# Altium integrated library TI Power Management Power Supply Support.IntLib: 88 symbols (part 3 of 4)
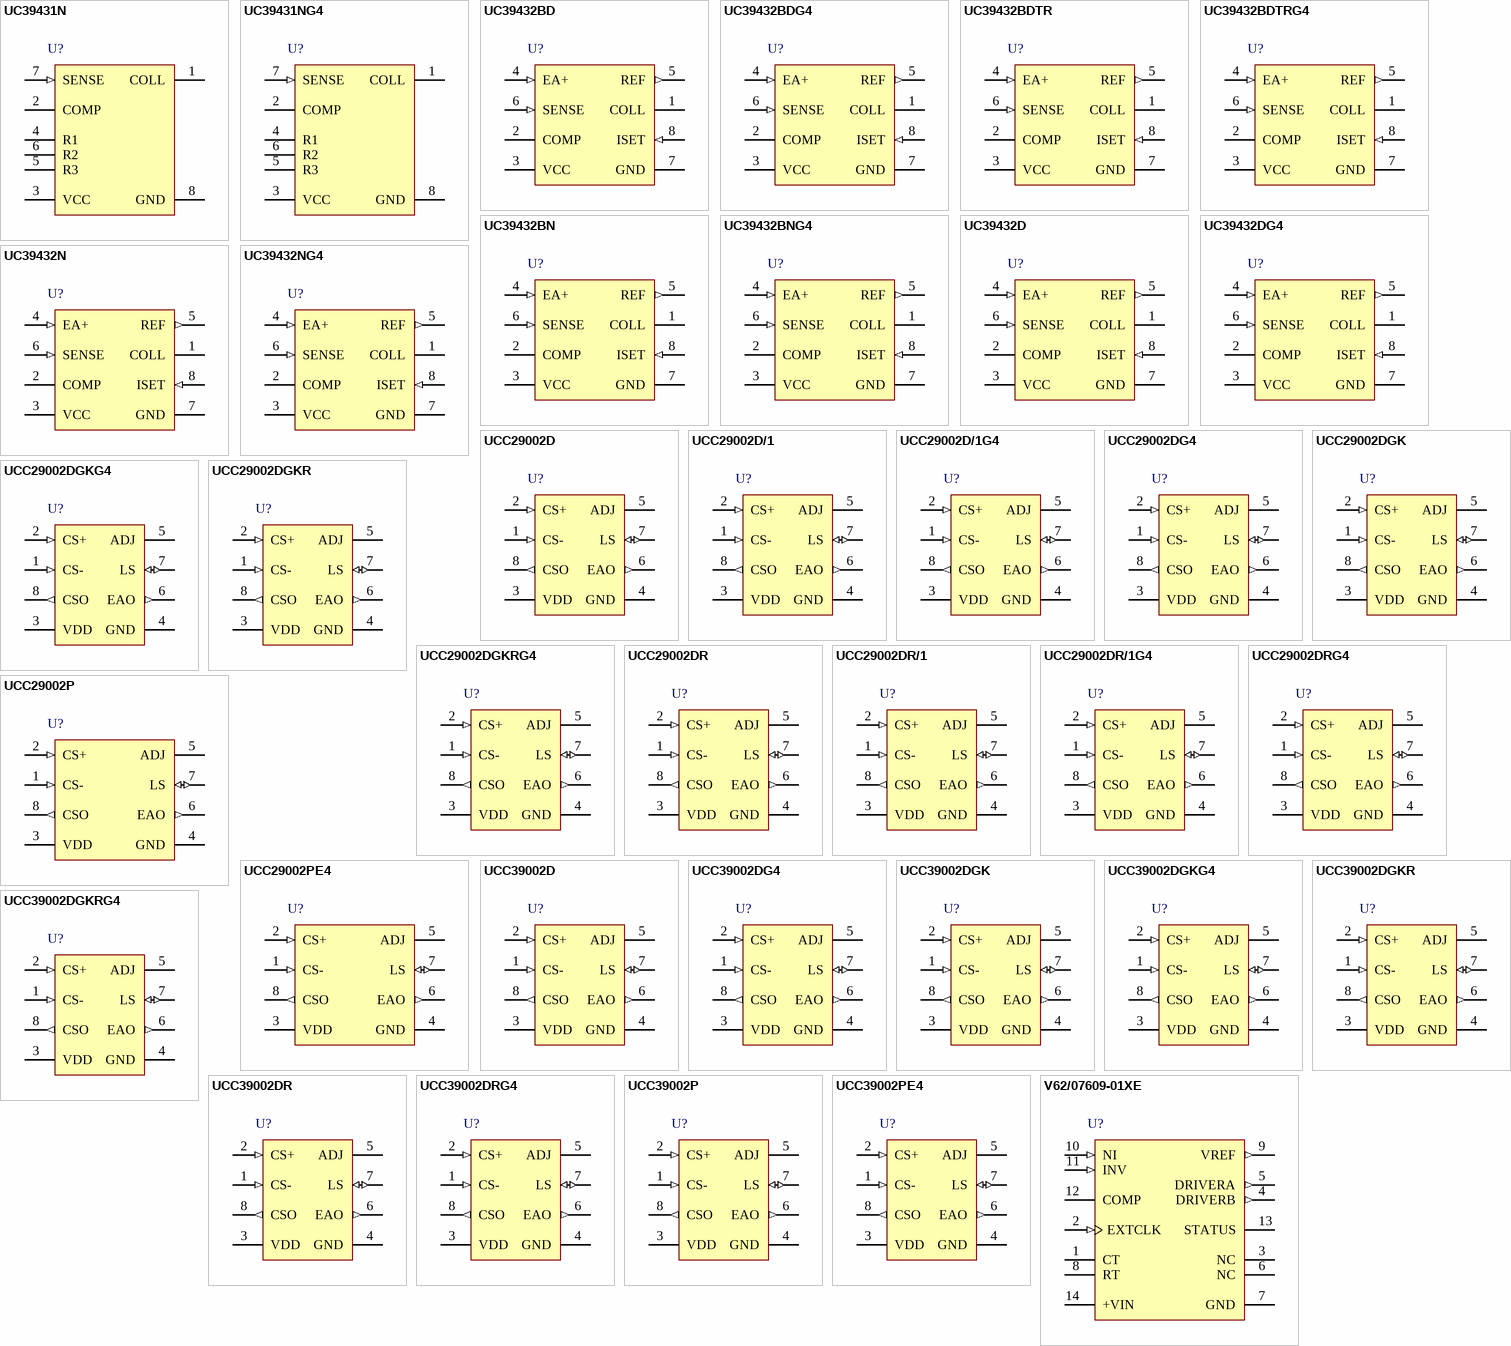
[diagram p4: symbols UC39431N to V62/07609-01XE]

## UC39432BNG4
designator U?
Precision Analog Controller, 2.2 to 36 V, 0 to 70 degC, 8-pin PDIP (P), Green (RoHS & no Sb/Br); Manufacturer: Texas Instruments; PartNumber: UC39432BNG4; On Board Reference: 1.3; Operating Supply Current(mA): 0.5; Operating Supply(Max)(V): 36; Operating Supply(Min)(V): 2.2; Output Current(A): 0.1; Rating: Catalog; Vref tol(%): 0.8; DatasheetVersion: SLUS301A; PackageVersion: revE, Apr-2010; PackageReference: P8; PackageDescription: 8-Pin Plastic Dual-In-Line Package, Row Spacing 7.62 mm, Pitch 2.54 mm; Supplier 1: Digi-Key; Supplier Part Number 1: UC39432BNG4-ND; Supplier 2: Newark; Supplier Part Number 2: 54K2370; Supplier 3: Mouser; Supplier Part Number 3: 595-UC39432BNG4; Reference Voltage(V): 1.3; Mounting Technology: Through Hole; Code_JEDEC: MS-001-BA; ComponentLink1Description: Datasheet; ComponentLink1URL: http://www.ti.com/general/docs/lit/getliterature.tsp?genericPartNumber=UC39432&fileType=pdf
footprint P8 (DIP, 8-Leads, Row Spacing 7.62mm, Pitch 2.54mm, Body 9.6x6.4mm)
pins: 1 COLL (oc) "The collector of the output transistor with a maximum voltage of 36V. This pin is the output of the transconductance amplifier. The overall open loop voltage gain of the transconductance amplifier is gm . RL, where gm is (See Datasheet)", 2 COMP "The output of the error amplifier and the input to the transconductance amplifier. This pin is available to compensate the high frequency gain of the error amplifier. It is internally voltage limited to approximately 2.0V.", 3 VCC (power) "The power connection for the device. The minimum to maximum operating voltage is 2.2V to 36.0V. The quiescent current is typically 0.50mA.", 4 EA+ (in) "The non-inverting input to the error amplifier.", 5 REF (out) "The output of the trimmed precision reference.It can source or sink 10 uA and still maintain the 1% temperature specification.", 6 SENSE (in) "The inverting terminal of the error amplifier used as both the voltage sense input to the error amplifier and its other compensation point. The error amplifier uses the SENSE input to compare against the 1.3V on-chip (See Datasheet)", 7 GND (power) "The reference and power ground for the device. The power ground of the output transistor is isolated on the chip from the substrate ground used to bias the remainder of the device.", 8 ISET (in) "The current set pin for the transconductance amplifier."

## UC39432D
designator U?
Precision Analog Controller, 2.2 to 36 V, 0 to 70 degC, 8-pin SOIC (D), Green (RoHS & no Sb/Br); Manufacturer: Texas Instruments; PartNumber: UC39432D; On Board Reference: 1.3; Operating Supply Current(mA): 0.5; Operating Supply(Max)(V): 36; Operating Supply(Min)(V): 2.2; Output Current(A): 0.1; Rating: Catalog; Vref tol(%): 0.8; DatasheetVersion: SLUS301A; PackageVersion: revM, Jun-2011; PackageReference: D8; PackageDescription: 8-Pin Plastic Small Outline Integrated Circuit, 4.9 x 3.9 mm, Pitch 1.27 mm Pitch; Supplier 1: Digi-Key; Supplier Part Number 1: 296-11350-5-ND; Supplier 2: Newark; Supplier Part Number 2: 77C3492; Supplier 3: Mouser; Supplier Part Number 3: 595-UC39432D; Reference Voltage(V): 1.3; Mounting Technology: Surface Mount; Code_JEDEC: MS-012AA; ComponentLink1Description: Datasheet; ComponentLink1URL: http://www.ti.com/general/docs/lit/getliterature.tsp?genericPartNumber=UC39432&fileType=pdf
footprint D8_N (SOIC, 8-Leads, Body 4.9x3.9mm, Pitch 1.27mm, IPC Medium Density)
footprint D8_L (SOIC, 8-Leads, Body 4.9x3.9mm, Pitch 1.27mm, IPC High Density)
footprint D8_M (SOIC, 8-Leads, Body 4.9x3.9mm, Pitch 1.27mm, IPC Low Density)
pins: 1 COLL (oc) "The collector of the output transistor with a maximum voltage of 36V. This pin is the output of the transconductance amplifier. The overall open loop voltage gain of the transconductance amplifier is gm . RL, where gm is (See Datasheet)", 2 COMP "The output of the error amplifier and the input to the transconductance amplifier. This pin is available to compensate the high frequency gain of the error amplifier. It is internally voltage limited to approximately 2.0V.", 3 VCC (power) "The power connection for the device. The minimum to maximum operating voltage is 2.2V to 36.0V. The quiescent current is typically 0.50mA.", 4 EA+ (in) "The non-inverting input to the error amplifier.", 5 REF (out) "The output of the trimmed precision reference.It can source or sink 10 uA and still maintain the 1% temperature specification.", 6 SENSE (in) "The inverting terminal of the error amplifier used as both the voltage sense input to the error amplifier and its other compensation point. The error amplifier uses the SENSE input to compare against the 1.3V on-chip (See Datasheet)", 7 GND (power) "The reference and power ground for the device. The power ground of the output transistor is isolated on the chip from the substrate ground used to bias the remainder of the device.", 8 ISET (in) "The current set pin for the transconductance amplifier.The transconductance will be -140mS as specified in the electrical table if this pin is grounded.If a resistsnce RL is added to the ISET pin, the resulting new (See Datasheet)"

## UC39432DG4
designator U?
Precision Analog Controller, 2.2 to 36 V, 0 to 70 degC, 8-pin SOIC (D), Green (RoHS & no Sb/Br); Manufacturer: Texas Instruments; PartNumber: UC39432DG4; On Board Reference: 1.3; Operating Supply Current(mA): 0.5; Operating Supply(Max)(V): 36; Operating Supply(Min)(V): 2.2; Output Current(A): 0.1; Rating: Catalog; Vref tol(%): 0.8; DatasheetVersion: SLUS301A; PackageVersion: revM, Jun-2011; PackageReference: D8; PackageDescription: 8-Pin Plastic Small Outline Integrated Circuit, 4.9 x 3.9 mm, Pitch 1.27 mm Pitch; Supplier 1: Digi-Key; Supplier Part Number 1: UC39432DG4-ND; Supplier 2: Newark; Supplier Part Number 2: 80K3544; Supplier 3: Mouser; Supplier Part Number 3: 595-UC39432DG4; Reference Voltage(V): 1.3; Mounting Technology: Surface Mount; Code_JEDEC: MS-012AA; ComponentLink1Description: Datasheet; ComponentLink1URL: http://www.ti.com/general/docs/lit/getliterature.tsp?genericPartNumber=UC39432&fileType=pdf
footprint D8_N (SOIC, 8-Leads, Body 4.9x3.9mm, Pitch 1.27mm, IPC Medium Density)
footprint D8_L (SOIC, 8-Leads, Body 4.9x3.9mm, Pitch 1.27mm, IPC High Density)
footprint D8_M (SOIC, 8-Leads, Body 4.9x3.9mm, Pitch 1.27mm, IPC Low Density)
pins: 1 COLL (oc) "The collector of the output transistor with a maximum voltage of 36V. This pin is the output of the transconductance amplifier. The overall open loop voltage gain of the transconductance amplifier is gm . RL, where gm is (See Datasheet)", 2 COMP "The output of the error amplifier and the input to the transconductance amplifier. This pin is available to compensate the high frequency gain of the error amplifier. It is internally voltage limited to approximately 2.0V.", 3 VCC (power) "The power connection for the device. The minimum to maximum operating voltage is 2.2V to 36.0V. The quiescent current is typically 0.50mA.", 4 EA+ (in) "The non-inverting input to the error amplifier.", 5 REF (out) "The output of the trimmed precision reference.It can source or sink 10 uA and still maintain the 1% temperature specification.", 6 SENSE (in) "The inverting terminal of the error amplifier used as both the voltage sense input to the error amplifier and its other compensation point. The error amplifier uses the SENSE input to compare against the 1.3V on-chip (See Datasheet)", 7 GND (power) "The reference and power ground for the device. The power ground of the output transistor is isolated on the chip from the substrate ground used to bias the remainder of the device.", 8 ISET (in) "The current set pin for the transconductance amplifier.The transconductance will be -140mS as specified in the electrical table if this pin is grounded.If a resistsnce RL is added to the ISET pin, the resulting new (See Datasheet)"

## UC39432N
designator U?
Precision Analog Controller, 2.2 to 36 V, 0 to 70 degC, 8-pin PDIP (P), Green (RoHS & no Sb/Br); Manufacturer: Texas Instruments; PartNumber: UC39432N; On Board Reference: 1.3; Operating Supply Current(mA): 0.5; Operating Supply(Max)(V): 36; Operating Supply(Min)(V): 2.2; Output Current(A): 0.1; Rating: Catalog; Vref tol(%): 0.8; DatasheetVersion: SLUS301A; PackageVersion: revE, Apr-2010; PackageReference: P8; PackageDescription: 8-Pin Plastic Dual-In-Line Package, Row Spacing 7.62 mm, Pitch 2.54 mm; Supplier 1: Digi-Key; Supplier Part Number 1: 296-11351-5-ND; Supplier 2: Farnell; Supplier Part Number 2: 1534751; Supplier 3: Newark; Supplier Part Number 3: 77C3494; Supplier 4: Mouser; Supplier Part Number 4: 595-UC39432N; Reference Voltage(V): 1.3; Mounting Technology: Through Hole; Code_JEDEC: MS-001-BA; ComponentLink1Description: Datasheet; ComponentLink1URL: http://www.ti.com/general/docs/lit/getliterature.tsp?genericPartNumber=UC39432&fileType=pdf
footprint P8 (DIP, 8-Leads, Row Spacing 7.62mm, Pitch 2.54mm, Body 9.6x6.4mm)
pins: 1 COLL (oc) "The collector of the output transistor with a maximum voltage of 36V. This pin is the output of the transconductance amplifier. The overall open loop voltage gain of the transconductance amplifier is gm . RL, where gm is (See Datasheet)", 2 COMP "The output of the error amplifier and the input to the transconductance amplifier. This pin is available to compensate the high frequency gain of the error amplifier. It is internally voltage limited to approximately 2.0V.", 3 VCC (power) "The power connection for the device. The minimum to maximum operating voltage is 2.2V to 36.0V. The quiescent current is typically 0.50mA.", 4 EA+ (in) "The non-inverting input to the error amplifier.", 5 REF (out) "The output of the trimmed precision reference.It can source or sink 10 uA and still maintain the 1% temperature specification.", 6 SENSE (in) "The inverting terminal of the error amplifier used as both the voltage sense input to the error amplifier and its other compensation point. The error amplifier uses the SENSE input to compare against the 1.3V on-chip (See Datasheet)", 7 GND (power) "The reference and power ground for the device. The power ground of the output transistor is isolated on the chip from the substrate ground used to bias the remainder of the device.", 8 ISET (in) "The current set pin for the transconductance amplifier."

## UC39432NG4
designator U?
Precision Analog Controller, 2.2 to 36 V, 0 to 70 degC, 8-pin PDIP (P), Green (RoHS & no Sb/Br); Manufacturer: Texas Instruments; PartNumber: UC39432NG4; On Board Reference: 1.3; Operating Supply Current(mA): 0.5; Operating Supply(Max)(V): 36; Operating Supply(Min)(V): 2.2; Output Current(A): 0.1; Rating: Catalog; Vref tol(%): 0.8; DatasheetVersion: SLUS301A; PackageVersion: revE, Apr-2010; PackageReference: P8; PackageDescription: 8-Pin Plastic Dual-In-Line Package, Row Spacing 7.62 mm, Pitch 2.54 mm; Supplier 1: Digi-Key; Supplier Part Number 1: UC39432NG4-ND; Supplier 2: Newark; Supplier Part Number 2: 70K6042; Supplier 3: Mouser; Supplier Part Number 3: 595-UC39432NG4; Reference Voltage(V): 1.3; Mounting Technology: Through Hole; Code_JEDEC: MS-001-BA; ComponentLink1Description: Datasheet; ComponentLink1URL: http://www.ti.com/general/docs/lit/getliterature.tsp?genericPartNumber=UC39432&fileType=pdf
footprint P8 (DIP, 8-Leads, Row Spacing 7.62mm, Pitch 2.54mm, Body 9.6x6.4mm)
pins: 1 COLL (oc) "The collector of the output transistor with a maximum voltage of 36V. This pin is the output of the transconductance amplifier. The overall open loop voltage gain of the transconductance amplifier is gm . RL, where gm is (See Datasheet)", 2 COMP "The output of the error amplifier and the input to the transconductance amplifier. This pin is available to compensate the high frequency gain of the error amplifier. It is internally voltage limited to approximately 2.0V.", 3 VCC (power) "The power connection for the device. The minimum to maximum operating voltage is 2.2V to 36.0V. The quiescent current is typically 0.50mA.", 4 EA+ (in) "The non-inverting input to the error amplifier.", 5 REF (out) "The output of the trimmed precision reference.It can source or sink 10 uA and still maintain the 1% temperature specification.", 6 SENSE (in) "The inverting terminal of the error amplifier used as both the voltage sense input to the error amplifier and its other compensation point. The error amplifier uses the SENSE input to compare against the 1.3V on-chip (See Datasheet)", 7 GND (power) "The reference and power ground for the device. The power ground of the output transistor is isolated on the chip from the substrate ground used to bias the remainder of the device.", 8 ISET (in) "The current set pin for the transconductance amplifier."

## UCC29002D
designator U?
Advanced Load Share Controller with UVLO, 4.375 to 14.25 V Supply, -40 to 105 degC, 8-pin SOIC (D), Green (RoHS & no Sb/Br); Manufacturer: Texas Instruments; PartNumber: UCC29002D; Operating Supply Current(mA): 2.5; Operating Supply(Max)(V): 14.25; Operating Supply(Min)(V): 4.375; Rating: Catalog; Share Bus: Single-Ended; Startup Current(uA): 2500; UVLO: TRUE; DatasheetVersion: SLUS495H; PackageVersion: revM, Jun-2011; PackageReference: D8; PackageDescription: 8-Pin Plastic Small Outline Integrated Circuit, 4.9 x 3.9 mm, Pitch 1.27 mm Pitch; Supplier 1: Digi-Key; Supplier Part Number 1: 296-13024-5-ND; Supplier 2: Newark; Supplier Part Number 2: 77C2182; Supplier 3: Mouser; Supplier Part Number 3: 595-UCC29002D; Eco-Plan: Green (RoHS & no Sb/Br); SubFamily: Load Share; Mounting Technology: Surface Mount; Code_JEDEC: MS-012AA; ComponentLink1Description: Datasheet; ComponentLink1URL: http://www.ti.com/general/docs/lit/getliterature.tsp?genericPartNumber=UCC29002&fileType=pdf
footprint D8_N (SOIC, 8-Leads, Body 4.9x3.9mm, Pitch 1.27mm, IPC Medium Density)
footprint D8_L (SOIC, 8-Leads, Body 4.9x3.9mm, Pitch 1.27mm, IPC High Density)
footprint D8_M (SOIC, 8-Leads, Body 4.9x3.9mm, Pitch 1.27mm, IPC Low Density)
pins: 1 CS- (in) "Current sense amplifier inverting input.", 2 CS+ (in) "Current sense amplifier non-inverting input.", 3 VDD (power) "Power supply providing bias to the device. Bypass with a good quality, low ESL 0.1-µF to 1-µF, maximum, capacitor as close to the VDD pin and GND as possible.", 4 GND (power) "Ground. Reference ground and power ground for all device functions. Return the device to the low current sense- path of the converter.", 5 ADJ (power) "Adjust amplifier output. This is the buffered output of the error amplifier block to adjust output voltage of the power supply being controlled. This pin must always be connected to a voltage equal to or greater than VEAO + (See Datasheet)", 6 EAO (out) "Output for load share error amplifier. (Transconductance error amplifier.)", 7 LS (io) "Load share bus. Output of the load share bus driver amplifier.", 8 CSO (out) "Current sense amplifier output."

## UCC29002D/1
designator U?
Advanced Load Share Controller with UVLO, 4.375 to 14.25 V Supply, -40 to 105 degC, 8-pin SOIC (D), Green (RoHS & no Sb/Br); Manufacturer: Texas Instruments; PartNumber: UCC29002D/1; Operating Supply Current(mA): 2.5; Operating Supply(Max)(V): 14.25; Operating Supply(Min)(V): 4.375; Rating: Catalog; Share Bus: Single-Ended; Startup Current(uA): 2500; UVLO: TRUE; DatasheetVersion: SLUS495H; PackageVersion: revM, Jun-2011; PackageReference: D8; PackageDescription: 8-Pin Plastic Small Outline Integrated Circuit, 4.9 x 3.9 mm, Pitch 1.27 mm Pitch; Supplier 1: Digi-Key; Supplier Part Number 1: 296-34761-5-ND; Supplier 2: Newark; Supplier Part Number 2: 99M6635; Supplier 3: Mouser; Supplier Part Number 3: 595-UCC29002D/1; Eco-Plan: Green (RoHS & no Sb/Br); SubFamily: Load Share; Mounting Technology: Surface Mount; Code_JEDEC: MS-012AA; ComponentLink1Description: Datasheet; ComponentLink1URL: http://www.ti.com/general/docs/lit/getliterature.tsp?genericPartNumber=UCC29002&fileType=pdf
footprint D8_N (SOIC, 8-Leads, Body 4.9x3.9mm, Pitch 1.27mm, IPC Medium Density)
footprint D8_L (SOIC, 8-Leads, Body 4.9x3.9mm, Pitch 1.27mm, IPC High Density)
footprint D8_M (SOIC, 8-Leads, Body 4.9x3.9mm, Pitch 1.27mm, IPC Low Density)
pins: 1 CS- (in) "Current sense amplifier inverting input.", 2 CS+ (in) "Current sense amplifier non-inverting input.", 3 VDD (power) "Power supply providing bias to the device. Bypass with a good quality, low ESL 0.1-µF to 1-µF, maximum, capacitor as close to the VDD pin and GND as possible.", 4 GND (power) "Ground. Reference ground and power ground for all device functions. Return the device to the low current sense- path of the converter.", 5 ADJ (power) "Adjust amplifier output. This is the buffered output of the error amplifier block to adjust output voltage of the power supply being controlled. This pin must always be connected to a voltage equal to or greater than VEAO + (See Datasheet)", 6 EAO (out) "Output for load share error amplifier. (Transconductance error amplifier.)", 7 LS (io) "Load share bus. Output of the load share bus driver amplifier.", 8 CSO (out) "Current sense amplifier output."

## UCC29002D/1G4
designator U?
Advanced Load Share Controller with UVLO, 4.375 to 14.25 V Supply, -40 to 105 degC, 8-pin SOIC (D), Green (RoHS & no Sb/Br); Manufacturer: Texas Instruments; PartNumber: UCC29002D/1G4; Operating Supply Current(mA): 2.5; Operating Supply(Max)(V): 14.25; Operating Supply(Min)(V): 4.375; Rating: Catalog; Share Bus: Single-Ended; Startup Current(uA): 2500; UVLO: TRUE; DatasheetVersion: SLUS495H; PackageVersion: revM, Jun-2011; PackageReference: D8; PackageDescription: 8-Pin Plastic Small Outline Integrated Circuit, 4.9 x 3.9 mm, Pitch 1.27 mm Pitch; Supplier 1: Digi-Key; Supplier Part Number 1: UCC29002D/1G4-ND; Supplier 2: Mouser; Supplier Part Number 2: 595-UCC29002D/1G4; Eco-Plan: Green (RoHS & no Sb/Br); SubFamily: Load Share; Mounting Technology: Surface Mount; Code_JEDEC: MS-012AA; ComponentLink1Description: Datasheet; ComponentLink1URL: http://www.ti.com/general/docs/lit/getliterature.tsp?genericPartNumber=UCC29002&fileType=pdf
footprint D8_N (SOIC, 8-Leads, Body 4.9x3.9mm, Pitch 1.27mm, IPC Medium Density)
footprint D8_L (SOIC, 8-Leads, Body 4.9x3.9mm, Pitch 1.27mm, IPC High Density)
footprint D8_M (SOIC, 8-Leads, Body 4.9x3.9mm, Pitch 1.27mm, IPC Low Density)
pins: 1 CS- (in) "Current sense amplifier inverting input.", 2 CS+ (in) "Current sense amplifier non-inverting input.", 3 VDD (power) "Power supply providing bias to the device. Bypass with a good quality, low ESL 0.1-µF to 1-µF, maximum, capacitor as close to the VDD pin and GND as possible.", 4 GND (power) "Ground. Reference ground and power ground for all device functions. Return the device to the low current sense- path of the converter.", 5 ADJ (power) "Adjust amplifier output. This is the buffered output of the error amplifier block to adjust output voltage of the power supply being controlled. This pin must always be connected to a voltage equal to or greater than VEAO + (See Datasheet)", 6 EAO (out) "Output for load share error amplifier. (Transconductance error amplifier.)", 7 LS (io) "Load share bus. Output of the load share bus driver amplifier.", 8 CSO (out) "Current sense amplifier output."

## UCC29002DG4
designator U?
Advanced Load Share Controller with UVLO, 4.375 to 14.25 V Supply, -40 to 105 degC, 8-pin SOIC (D), Green (RoHS & no Sb/Br); Manufacturer: Texas Instruments; PartNumber: UCC29002DG4; Operating Supply Current(mA): 2.5; Operating Supply(Max)(V): 14.25; Operating Supply(Min)(V): 4.375; Rating: Catalog; Share Bus: Single-Ended; Startup Current(uA): 2500; UVLO: TRUE; DatasheetVersion: SLUS495H; PackageVersion: revM, Jun-2011; PackageReference: D8; PackageDescription: 8-Pin Plastic Small Outline Integrated Circuit, 4.9 x 3.9 mm, Pitch 1.27 mm Pitch; Supplier 1: Digi-Key; Supplier Part Number 1: UCC29002DG4-ND; Supplier 2: Newark; Supplier Part Number 2: 70K5899; Supplier 3: Mouser; Supplier Part Number 3: 595-UCC29002DG4; Eco-Plan: Green (RoHS & no Sb/Br); SubFamily: Load Share; Mounting Technology: Surface Mount; Code_JEDEC: MS-012AA; ComponentLink1Description: Datasheet; ComponentLink1URL: http://www.ti.com/general/docs/lit/getliterature.tsp?genericPartNumber=UCC29002&fileType=pdf
footprint D8_N (SOIC, 8-Leads, Body 4.9x3.9mm, Pitch 1.27mm, IPC Medium Density)
footprint D8_L (SOIC, 8-Leads, Body 4.9x3.9mm, Pitch 1.27mm, IPC High Density)
footprint D8_M (SOIC, 8-Leads, Body 4.9x3.9mm, Pitch 1.27mm, IPC Low Density)
pins: 1 CS- (in) "Current sense amplifier inverting input.", 2 CS+ (in) "Current sense amplifier non-inverting input.", 3 VDD (power) "Power supply providing bias to the device. Bypass with a good quality, low ESL 0.1-µF to 1-µF, maximum, capacitor as close to the VDD pin and GND as possible.", 4 GND (power) "Ground. Reference ground and power ground for all device functions. Return the device to the low current sense- path of the converter.", 5 ADJ (power) "Adjust amplifier output. This is the buffered output of the error amplifier block to adjust output voltage of the power supply being controlled. This pin must always be connected to a voltage equal to or greater than VEAO + (See Datasheet)", 6 EAO (out) "Output for load share error amplifier. (Transconductance error amplifier.)", 7 LS (io) "Load share bus. Output of the load share bus driver amplifier.", 8 CSO (out) "Current sense amplifier output."

## UCC29002DGK
designator U?
Advanced Load Share Controller with UVLO, 4.375 to 14.25 V Supply, -40 to 105 degC, 8-pin VSSOP (DGK), Green (RoHS & no Sb/Br); Manufacturer: Texas Instruments; PartNumber: UCC29002DGK; Operating Supply Current(mA): 2.5; Operating Supply(Max)(V): 14.25; Operating Supply(Min)(V): 4.375; Rating: Catalog; Share Bus: Single-Ended; Startup Current(uA): 2500; UVLO: TRUE; DatasheetVersion: SLUS495H; PackageVersion: revE, May-2006; PackageReference: DGK8; PackageDescription: 8-Pin Thin Small Outline Package 3 x 3 mm Body ,0.65 mm Pitch; Supplier 1: Digi-Key; Supplier Part Number 1: 296-13025-5-ND; Supplier 2: Newark; Supplier Part Number 2: 77C2183; Supplier 3: Mouser; Supplier Part Number 3: 595-UCC29002DGK; Eco-Plan: Green (RoHS & no Sb/Br); SubFamily: Load Share; Mounting Technology: Surface Mount; Code_JEDEC: MO-187-AA; ComponentLink1Description: Datasheet; ComponentLink1URL: http://www.ti.com/general/docs/lit/getliterature.tsp?genericPartNumber=UCC29002&fileType=pdf
footprint DGK8_N (TSOP, 8-Leads, Body 3x3mm, Pitch 0.65mm, IPC Medium Density)
footprint DGK8_L (TSOP, 8-Leads, Body 3x3mm, Pitch 0.65mm, IPC High Density)
footprint DGK8_M (TSOP, 8-Leads, Body 3x3mm, Pitch 0.65mm, IPC Low Density)
pins: 1 CS- (in) "Current sense amplifier inverting input.", 2 CS+ (in) "Current sense amplifier non-inverting input.", 3 VDD (power) "Power supply providing bias to the device. Bypass with a good quality, low ESL 0.1-µF to 1-µF, maximum, capacitor as close to the VDD pin and GND as possible.", 4 GND (power) "Ground. Reference ground and power ground for all device functions. Return the device to the low current sense- path of the converter.", 5 ADJ (power) "Adjust amplifier output. This is the buffered output of the error amplifier block to adjust output voltage of the power supply being controlled. This pin must always be connected to a voltage equal to or greater than VEAO + (See Datasheet)", 6 EAO (out) "Output for load share error amplifier. (Transconductance error amplifier.)", 7 LS (io) "Load share bus. Output of the load share bus driver amplifier.", 8 CSO (out) "Current sense amplifier output."

## UCC29002DGKG4
designator U?
Advanced Load Share Controller with UVLO, 4.375 to 14.25 V Supply, -40 to 105 degC, 8-pin VSSOP (DGK), Green (RoHS & no Sb/Br); Manufacturer: Texas Instruments; PartNumber: UCC29002DGKG4; Operating Supply Current(mA): 2.5; Operating Supply(Max)(V): 14.25; Operating Supply(Min)(V): 4.375; Rating: Catalog; Share Bus: Single-Ended; Startup Current(uA): 2500; UVLO: TRUE; DatasheetVersion: SLUS495H; PackageVersion: revE, May-2006; PackageReference: DGK8; PackageDescription: 8-Pin Thin Small Outline Package 3 x 3 mm Body ,0.65 mm Pitch; Supplier 1: Digi-Key; Supplier Part Number 1: UCC29002DGKG4-ND; Supplier 2: Newark; Supplier Part Number 2: 20M5931; Supplier 3: Mouser; Supplier Part Number 3: 595-UCC29002DGKG4; Eco-Plan: Green (RoHS & no Sb/Br); SubFamily: Load Share; Mounting Technology: Surface Mount; Code_JEDEC: MO-187-AA; ComponentLink1Description: Datasheet; ComponentLink1URL: http://www.ti.com/general/docs/lit/getliterature.tsp?genericPartNumber=UCC29002&fileType=pdf
footprint DGK8_N (TSOP, 8-Leads, Body 3x3mm, Pitch 0.65mm, IPC Medium Density)
footprint DGK8_L (TSOP, 8-Leads, Body 3x3mm, Pitch 0.65mm, IPC High Density)
footprint DGK8_M (TSOP, 8-Leads, Body 3x3mm, Pitch 0.65mm, IPC Low Density)
pins: 1 CS- (in) "Current sense amplifier inverting input.", 2 CS+ (in) "Current sense amplifier non-inverting input.", 3 VDD (power) "Power supply providing bias to the device. Bypass with a good quality, low ESL 0.1-µF to 1-µF, maximum, capacitor as close to the VDD pin and GND as possible.", 4 GND (power) "Ground. Reference ground and power ground for all device functions. Return the device to the low current sense- path of the converter.", 5 ADJ (power) "Adjust amplifier output. This is the buffered output of the error amplifier block to adjust output voltage of the power supply being controlled. This pin must always be connected to a voltage equal to or greater than VEAO + (See Datasheet)", 6 EAO (out) "Output for load share error amplifier. (Transconductance error amplifier.)", 7 LS (io) "Load share bus. Output of the load share bus driver amplifier.", 8 CSO (out) "Current sense amplifier output."

## UCC29002DGKR
designator U?
Advanced Load Share Controller with UVLO, 4.375 to 14.25 V Supply, -40 to 105 degC, 8-pin VSSOP (DGK), Green (RoHS & no Sb/Br); Manufacturer: Texas Instruments; PartNumber: UCC29002DGKR; Operating Supply Current(mA): 2.5; Operating Supply(Max)(V): 14.25; Operating Supply(Min)(V): 4.375; Rating: Catalog; Share Bus: Single-Ended; Startup Current(uA): 2500; UVLO: TRUE; DatasheetVersion: SLUS495H; PackageVersion: revE, May-2006; PackageReference: DGK8; PackageDescription: 8-Pin Thin Small Outline Package 3 x 3 mm Body ,0.65 mm Pitch; Supplier 1: Digi-Key; Supplier Part Number 1: UCC29002DGKR-ND; Supplier 2: Newark; Supplier Part Number 2: 77C2184; Supplier 3: Mouser; Supplier Part Number 3: 595-UCC29002DGKR; Eco-Plan: Green (RoHS & no Sb/Br); SubFamily: Load Share; Mounting Technology: Surface Mount; Code_JEDEC: MO-187-AA; ComponentLink1Description: Datasheet; ComponentLink1URL: http://www.ti.com/general/docs/lit/getliterature.tsp?genericPartNumber=UCC29002&fileType=pdf
footprint DGK8_N (TSOP, 8-Leads, Body 3x3mm, Pitch 0.65mm, IPC Medium Density)
footprint DGK8_L (TSOP, 8-Leads, Body 3x3mm, Pitch 0.65mm, IPC High Density)
footprint DGK8_M (TSOP, 8-Leads, Body 3x3mm, Pitch 0.65mm, IPC Low Density)
pins: 1 CS- (in) "Current sense amplifier inverting input.", 2 CS+ (in) "Current sense amplifier non-inverting input.", 3 VDD (power) "Power supply providing bias to the device. Bypass with a good quality, low ESL 0.1-µF to 1-µF, maximum, capacitor as close to the VDD pin and GND as possible.", 4 GND (power) "Ground. Reference ground and power ground for all device functions. Return the device to the low current sense- path of the converter.", 5 ADJ (power) "Adjust amplifier output. This is the buffered output of the error amplifier block to adjust output voltage of the power supply being controlled. This pin must always be connected to a voltage equal to or greater than VEAO + (See Datasheet)", 6 EAO (out) "Output for load share error amplifier. (Transconductance error amplifier.)", 7 LS (io) "Load share bus. Output of the load share bus driver amplifier.", 8 CSO (out) "Current sense amplifier output."

## UCC29002DGKRG4
designator U?
Advanced Load Share Controller with UVLO, 4.375 to 14.25 V Supply, -40 to 105 degC, 8-pin VSSOP (DGK), Green (RoHS & no Sb/Br); Manufacturer: Texas Instruments; PartNumber: UCC29002DGKRG4; Operating Supply Current(mA): 2.5; Operating Supply(Max)(V): 14.25; Operating Supply(Min)(V): 4.375; Rating: Catalog; Share Bus: Single-Ended; Startup Current(uA): 2500; UVLO: TRUE; DatasheetVersion: SLUS495H; PackageVersion: revE, May-2006; PackageReference: DGK8; PackageDescription: 8-Pin Thin Small Outline Package 3 x 3 mm Body ,0.65 mm Pitch; Supplier 1: Digi-Key; Supplier Part Number 1: UCC29002DGKRG4-ND; Supplier 2: Newark; Supplier Part Number 2: 73K9675; Supplier 3: Mouser; Supplier Part Number 3: 595-UCC29002DGKRG4; Eco-Plan: Green (RoHS & no Sb/Br); SubFamily: Load Share; Mounting Technology: Surface Mount; Code_JEDEC: MO-187-AA; ComponentLink1Description: Datasheet; ComponentLink1URL: http://www.ti.com/general/docs/lit/getliterature.tsp?genericPartNumber=UCC29002&fileType=pdf
footprint DGK8_N (TSOP, 8-Leads, Body 3x3mm, Pitch 0.65mm, IPC Medium Density)
footprint DGK8_L (TSOP, 8-Leads, Body 3x3mm, Pitch 0.65mm, IPC High Density)
footprint DGK8_M (TSOP, 8-Leads, Body 3x3mm, Pitch 0.65mm, IPC Low Density)
pins: 1 CS- (in) "Current sense amplifier inverting input.", 2 CS+ (in) "Current sense amplifier non-inverting input.", 3 VDD (power) "Power supply providing bias to the device. Bypass with a good quality, low ESL 0.1-µF to 1-µF, maximum, capacitor as close to the VDD pin and GND as possible.", 4 GND (power) "Ground. Reference ground and power ground for all device functions. Return the device to the low current sense- path of the converter.", 5 ADJ (power) "Adjust amplifier output. This is the buffered output of the error amplifier block to adjust output voltage of the power supply being controlled. This pin must always be connected to a voltage equal to or greater than VEAO + (See Datasheet)", 6 EAO (out) "Output for load share error amplifier. (Transconductance error amplifier.)", 7 LS (io) "Load share bus. Output of the load share bus driver amplifier.", 8 CSO (out) "Current sense amplifier output."

## UCC29002DR
designator U?
Advanced Load Share Controller with UVLO, 4.375 to 14.25 V Supply, -40 to 105 degC, 8-pin SOIC (D), Green (RoHS & no Sb/Br); Manufacturer: Texas Instruments; PartNumber: UCC29002DR; Operating Supply Current(mA): 2.5; Operating Supply(Max)(V): 14.25; Operating Supply(Min)(V): 4.375; Rating: Catalog; Share Bus: Single-Ended; Startup Current(uA): 2500; UVLO: TRUE; DatasheetVersion: SLUS495H; PackageVersion: revM, Jun-2011; PackageReference: D8; PackageDescription: 8-Pin Plastic Small Outline Integrated Circuit, 4.9 x 3.9 mm, Pitch 1.27 mm Pitch; Supplier 1: Digi-Key; Supplier Part Number 1: UCC29002DR-ND; Supplier 2: Newark; Supplier Part Number 2: 77C2185; Supplier 3: Mouser; Supplier Part Number 3: 595-UCC29002DR; Eco-Plan: Green (RoHS & no Sb/Br); SubFamily: Load Share; Mounting Technology: Surface Mount; Code_JEDEC: MS-012AA; ComponentLink1Description: Datasheet; ComponentLink1URL: http://www.ti.com/general/docs/lit/getliterature.tsp?genericPartNumber=UCC29002&fileType=pdf
footprint D8_N (SOIC, 8-Leads, Body 4.9x3.9mm, Pitch 1.27mm, IPC Medium Density)
footprint D8_L (SOIC, 8-Leads, Body 4.9x3.9mm, Pitch 1.27mm, IPC High Density)
footprint D8_M (SOIC, 8-Leads, Body 4.9x3.9mm, Pitch 1.27mm, IPC Low Density)
pins: 1 CS- (in) "Current sense amplifier inverting input.", 2 CS+ (in) "Current sense amplifier non-inverting input.", 3 VDD (power) "Power supply providing bias to the device. Bypass with a good quality, low ESL 0.1-µF to 1-µF, maximum, capacitor as close to the VDD pin and GND as possible.", 4 GND (power) "Ground. Reference ground and power ground for all device functions. Return the device to the low current sense- path of the converter.", 5 ADJ (power) "Adjust amplifier output. This is the buffered output of the error amplifier block to adjust output voltage of the power supply being controlled. This pin must always be connected to a voltage equal to or greater than VEAO + (See Datasheet)", 6 EAO (out) "Output for load share error amplifier. (Transconductance error amplifier.)", 7 LS (io) "Load share bus. Output of the load share bus driver amplifier.", 8 CSO (out) "Current sense amplifier output."

## UCC29002DR/1
designator U?
Advanced Load Share Controller with UVLO, 4.375 to 14.25 V Supply, -40 to 105 degC, 8-pin SOIC (D), Green (RoHS & no Sb/Br); Manufacturer: Texas Instruments; PartNumber: UCC29002DR/1; Operating Supply Current(mA): 2.5; Operating Supply(Max)(V): 14.25; Operating Supply(Min)(V): 4.375; Rating: Catalog; Share Bus: Single-Ended; Startup Current(uA): 2500; UVLO: TRUE; DatasheetVersion: SLUS495H; PackageVersion: revM, Jun-2011; PackageReference: D8; PackageDescription: 8-Pin Plastic Small Outline Integrated Circuit, 4.9 x 3.9 mm, Pitch 1.27 mm Pitch; Supplier 1: Digi-Key; Supplier Part Number 1: UCC29002DR/1-ND; Supplier 2: Mouser; Supplier Part Number 2: 595-UCC29002DR/1; Eco-Plan: Green (RoHS & no Sb/Br); SubFamily: Load Share; Mounting Technology: Surface Mount; Code_JEDEC: MS-012AA; ComponentLink1Description: Datasheet; ComponentLink1URL: http://www.ti.com/general/docs/lit/getliterature.tsp?genericPartNumber=UCC29002&fileType=pdf
footprint D8_N (SOIC, 8-Leads, Body 4.9x3.9mm, Pitch 1.27mm, IPC Medium Density)
footprint D8_L (SOIC, 8-Leads, Body 4.9x3.9mm, Pitch 1.27mm, IPC High Density)
footprint D8_M (SOIC, 8-Leads, Body 4.9x3.9mm, Pitch 1.27mm, IPC Low Density)
pins: 1 CS- (in) "Current sense amplifier inverting input.", 2 CS+ (in) "Current sense amplifier non-inverting input.", 3 VDD (power) "Power supply providing bias to the device. Bypass with a good quality, low ESL 0.1-µF to 1-µF, maximum, capacitor as close to the VDD pin and GND as possible.", 4 GND (power) "Ground. Reference ground and power ground for all device functions. Return the device to the low current sense- path of the converter.", 5 ADJ (power) "Adjust amplifier output. This is the buffered output of the error amplifier block to adjust output voltage of the power supply being controlled. This pin must always be connected to a voltage equal to or greater than VEAO + (See Datasheet)", 6 EAO (out) "Output for load share error amplifier. (Transconductance error amplifier.)", 7 LS (io) "Load share bus. Output of the load share bus driver amplifier.", 8 CSO (out) "Current sense amplifier output."

## UCC29002DR/1G4
designator U?
Advanced Load Share Controller with UVLO, 4.375 to 14.25 V Supply, -40 to 105 degC, 8-pin SOIC (D), Green (RoHS & no Sb/Br); Manufacturer: Texas Instruments; PartNumber: UCC29002DR/1G4; Operating Supply Current(mA): 2.5; Operating Supply(Max)(V): 14.25; Operating Supply(Min)(V): 4.375; Rating: Catalog; Share Bus: Single-Ended; Startup Current(uA): 2500; UVLO: TRUE; DatasheetVersion: SLUS495H; PackageVersion: revM, Jun-2011; PackageReference: D8; PackageDescription: 8-Pin Plastic Small Outline Integrated Circuit, 4.9 x 3.9 mm, Pitch 1.27 mm Pitch; Supplier 1: Digi-Key; Supplier Part Number 1: UCC29002DR/1G4-ND; Supplier 2: Mouser; Supplier Part Number 2: 595-UCC29002DR/1G4; Eco-Plan: Green (RoHS & no Sb/Br); SubFamily: Load Share; Mounting Technology: Surface Mount; Code_JEDEC: MS-012AA; ComponentLink1Description: Datasheet; ComponentLink1URL: http://www.ti.com/general/docs/lit/getliterature.tsp?genericPartNumber=UCC29002&fileType=pdf
footprint D8_N (SOIC, 8-Leads, Body 4.9x3.9mm, Pitch 1.27mm, IPC Medium Density)
footprint D8_L (SOIC, 8-Leads, Body 4.9x3.9mm, Pitch 1.27mm, IPC High Density)
footprint D8_M (SOIC, 8-Leads, Body 4.9x3.9mm, Pitch 1.27mm, IPC Low Density)
pins: 1 CS- (in) "Current sense amplifier inverting input.", 2 CS+ (in) "Current sense amplifier non-inverting input.", 3 VDD (power) "Power supply providing bias to the device. Bypass with a good quality, low ESL 0.1-µF to 1-µF, maximum, capacitor as close to the VDD pin and GND as possible.", 4 GND (power) "Ground. Reference ground and power ground for all device functions. Return the device to the low current sense- path of the converter.", 5 ADJ (power) "Adjust amplifier output. This is the buffered output of the error amplifier block to adjust output voltage of the power supply being controlled. This pin must always be connected to a voltage equal to or greater than VEAO + (See Datasheet)", 6 EAO (out) "Output for load share error amplifier. (Transconductance error amplifier.)", 7 LS (io) "Load share bus. Output of the load share bus driver amplifier.", 8 CSO (out) "Current sense amplifier output."

## UCC29002DRG4
designator U?
Advanced Load Share Controller with UVLO, 4.375 to 14.25 V Supply, -40 to 105 degC, 8-pin SOIC (D), Green (RoHS & no Sb/Br); Manufacturer: Texas Instruments; PartNumber: UCC29002DRG4; Operating Supply Current(mA): 2.5; Operating Supply(Max)(V): 14.25; Operating Supply(Min)(V): 4.375; Rating: Catalog; Share Bus: Single-Ended; Startup Current(uA): 2500; UVLO: TRUE; DatasheetVersion: SLUS495H; PackageVersion: revM, Jun-2011; PackageReference: D8; PackageDescription: 8-Pin Plastic Small Outline Integrated Circuit, 4.9 x 3.9 mm, Pitch 1.27 mm Pitch; Supplier 1: Digi-Key; Supplier Part Number 1: UCC29002DRG4-ND; Supplier 2: Newark; Supplier Part Number 2: 73K9676; Supplier 3: Mouser; Supplier Part Number 3: 595-UCC29002DRG4; Eco-Plan: Green (RoHS & no Sb/Br); SubFamily: Load Share; Mounting Technology: Surface Mount; Code_JEDEC: MS-012AA; ComponentLink1Description: Datasheet; ComponentLink1URL: http://www.ti.com/general/docs/lit/getliterature.tsp?genericPartNumber=UCC29002&fileType=pdf
footprint D8_N (SOIC, 8-Leads, Body 4.9x3.9mm, Pitch 1.27mm, IPC Medium Density)
footprint D8_L (SOIC, 8-Leads, Body 4.9x3.9mm, Pitch 1.27mm, IPC High Density)
footprint D8_M (SOIC, 8-Leads, Body 4.9x3.9mm, Pitch 1.27mm, IPC Low Density)
pins: 1 CS- (in) "Current sense amplifier inverting input.", 2 CS+ (in) "Current sense amplifier non-inverting input.", 3 VDD (power) "Power supply providing bias to the device. Bypass with a good quality, low ESL 0.1-µF to 1-µF, maximum, capacitor as close to the VDD pin and GND as possible.", 4 GND (power) "Ground. Reference ground and power ground for all device functions. Return the device to the low current sense- path of the converter.", 5 ADJ (power) "Adjust amplifier output. This is the buffered output of the error amplifier block to adjust output voltage of the power supply being controlled. This pin must always be connected to a voltage equal to or greater than VEAO + (See Datasheet)", 6 EAO (out) "Output for load share error amplifier. (Transconductance error amplifier.)", 7 LS (io) "Load share bus. Output of the load share bus driver amplifier.", 8 CSO (out) "Current sense amplifier output."

## UCC29002P
designator U?
Advanced Load Share Controller with UVLO, 4.375 to 14.25 V Supply, -40 to 105 degC, 8-pin PDIP (P), Pb-Free (RoHS); Manufacturer: Texas Instruments; PartNumber: UCC29002P; Operating Supply Current(mA): 2.5; Operating Supply(Max)(V): 14.25; Operating Supply(Min)(V): 4.375; Rating: Catalog; Share Bus: Single-Ended; Startup Current(uA): 2500; UVLO: TRUE; DatasheetVersion: SLUS495H; PackageVersion: revE, Apr-2010; PackageReference: P8; PackageDescription: 8-Pin Plastic Dual-In-Line Package, Row Spacing 7.62 mm, Pitch 2.54 mm; Supplier 1: Digi-Key; Supplier Part Number 1: 296-13026-5-ND; Supplier 2: Newark; Supplier Part Number 2: 77C2186; Supplier 3: Mouser; Supplier Part Number 3: 595-UCC29002P; Eco-Plan: Pb-Free (RoHS); SubFamily: Load Share; Mounting Technology: Through Hole; Code_JEDEC: MS-001-BA; ComponentLink1Description: Datasheet; ComponentLink1URL: http://www.ti.com/general/docs/lit/getliterature.tsp?genericPartNumber=UCC29002&fileType=pdf
footprint P8 (DIP, 8-Leads, Row Spacing 7.62mm, Pitch 2.54mm, Body 9.6x6.4mm)
pins: 1 CS- (in) "Current sense amplifier inverting input.", 2 CS+ (in) "Current sense amplifier non-inverting input.", 3 VDD (power) "Power supply providing bias to the device. Bypass with a good quality, low ESL 0.1-µF to 1-µF, maximum, capacitor as close to the VDD pin and GND as possible.", 4 GND (power) "Ground. Reference ground and power ground for all device functions. Return the device to the low current sense- path of the converter.", 5 ADJ (power) "Adjust amplifier output. This is the buffered output of the error amplifier block to adjust output voltage of the power supply being controlled. This pin must always be connected to a voltage equal to or greater than VEAO + (See Datasheet)", 6 EAO (out) "Output for load share error amplifier. (Transconductance error amplifier.)", 7 LS (io) "Load share bus. Output of the load share bus driver amplifier.", 8 CSO (out) "Current sense amplifier output."

## UCC29002PE4
designator U?
Advanced Load Share Controller with UVLO, 4.375 to 14.25 V Supply, -40 to 105 degC, 8-pin PDIP (P), Pb-Free (RoHS); Manufacturer: Texas Instruments; PartNumber: UCC29002PE4; Operating Supply Current(mA): 2.5; Operating Supply(Max)(V): 14.25; Operating Supply(Min)(V): 4.375; Rating: Catalog; Share Bus: Single-Ended; Startup Current(uA): 2500; UVLO: TRUE; DatasheetVersion: SLUS495H; PackageVersion: revE, Apr-2010; PackageReference: P8; PackageDescription: 8-Pin Plastic Dual-In-Line Package, Row Spacing 7.62 mm, Pitch 2.54 mm; Supplier 1: Digi-Key; Supplier Part Number 1: UCC29002PE4-ND; Supplier 2: Newark; Supplier Part Number 2: 24K6316; Supplier 3: Mouser; Supplier Part Number 3: 595-UCC29002PE4; Eco-Plan: Pb-Free (RoHS); SubFamily: Load Share; Mounting Technology: Through Hole; Code_JEDEC: MS-001-BA; ComponentLink1Description: Datasheet; ComponentLink1URL: http://www.ti.com/general/docs/lit/getliterature.tsp?genericPartNumber=UCC29002&fileType=pdf
footprint P8 (DIP, 8-Leads, Row Spacing 7.62mm, Pitch 2.54mm, Body 9.6x6.4mm)
pins: 1 CS- (in) "Current sense amplifier inverting input.", 2 CS+ (in) "Current sense amplifier non-inverting input.", 3 VDD (power) "Power supply providing bias to the device. Bypass with a good quality, low ESL 0.1-µF to 1-µF, maximum, capacitor as close to the VDD pin and GND as possible.", 4 GND (power) "Ground. Reference ground and power ground for all device functions. Return the device to the low current sense- path of the converter.", 5 ADJ (power) "Adjust amplifier output. This is the buffered output of the error amplifier block to adjust output voltage of the power supply being controlled. This pin must always be connected to a voltage equal to or greater than VEAO + (See Datasheet)", 6 EAO (out) "Output for load share error amplifier. (Transconductance error amplifier.)", 7 LS (io) "Load share bus. Output of the load share bus driver amplifier.", 8 CSO (out) "Current sense amplifier output."

## UCC39002D
designator U?
Advanced Loadshare Controller with UVLO, 4.375 to 14.25 V Supply, 0 to 70 degC, 8-pin SOIC (D), Green (RoHS & no Sb/Br); Manufacturer: Texas Instruments; PartNumber: UCC39002D; Operating Supply Current(mA): 2.5; Operating Supply(Max)(V): 14.25; Operating Supply(Min)(V): 4.375; Rating: Catalog; Share Bus: Single-Ended; Startup Current(uA): 2500; UVLO: TRUE; DatasheetVersion: SLUS495H; PackageVersion: revM, Jun-2011; PackageReference: D8; PackageDescription: 8-Pin Plastic Small Outline Integrated Circuit, 4.9 x 3.9 mm, Pitch 1.27 mm Pitch; Supplier 1: Digi-Key; Supplier Part Number 1: 296-13027-5-ND; Supplier 2: Newark; Supplier Part Number 2: 77C2548; Supplier 3: Mouser; Supplier Part Number 3: 595-UCC39002D; Eco-Plan: Green (RoHS & no Sb/Br); SubFamily: Load Share; Mounting Technology: Surface Mount; Code_JEDEC: MS-012AA; ComponentLink1Description: Datasheet; ComponentLink1URL: http://www.ti.com/general/docs/lit/getliterature.tsp?genericPartNumber=UCC39002&fileType=pdf
footprint D8_N (SOIC, 8-Leads, Body 4.9x3.9mm, Pitch 1.27mm, IPC Medium Density)
footprint D8_L (SOIC, 8-Leads, Body 4.9x3.9mm, Pitch 1.27mm, IPC High Density)
footprint D8_M (SOIC, 8-Leads, Body 4.9x3.9mm, Pitch 1.27mm, IPC Low Density)
pins: 1 CS- (in) "Current sense amplifier inverting input.", 2 CS+ (in) "Current sense amplifier non-inverting input.", 3 VDD (power) "Power supply providing bias to the device. Bypass with a good quality, low ESL 0.1-uF to 1-uF, maximum, capacitor as close to the VDD pin and GND as possible.", 4 GND (power) "Ground. Reference ground and power ground for all device functions. Return the device to the low current sense- path of the converter.", 5 ADJ (power) "Adjust amplifier output. This is the buffered output of the error amplifier block to adjust output voltage of the power supply being controlled. This pin must always be connected to a voltage equal to or greater than VEAO + (See Datasheet)", 6 EAO (out) "Output for load share error amplifier. (Transconductance error amplifier.)", 7 LS (io) "Load share bus. Output of the load share bus driver amplifier.", 8 CSO (out) "Current sense amplifier output."

## UCC39002DG4
designator U?
Advanced Loadshare Controller with UVLO, 4.375 to 14.25 V Supply, 0 to 70 degC, 8-pin SOIC (D), Green (RoHS & no Sb/Br); Manufacturer: Texas Instruments; PartNumber: UCC39002DG4; Operating Supply Current(mA): 2.5; Operating Supply(Max)(V): 14.25; Operating Supply(Min)(V): 4.375; Rating: Catalog; Share Bus: Single-Ended; Startup Current(uA): 2500; UVLO: TRUE; DatasheetVersion: SLUS495H; PackageVersion: revM, Jun-2011; PackageReference: D8; PackageDescription: 8-Pin Plastic Small Outline Integrated Circuit, 4.9 x 3.9 mm, Pitch 1.27 mm Pitch; Supplier 1: Digi-Key; Supplier Part Number 1: UCC39002DG4-ND; Supplier 2: Newark; Supplier Part Number 2: 70K5933; Supplier 3: Mouser; Supplier Part Number 3: 595-UCC39002DG4; Eco-Plan: Green (RoHS & no Sb/Br); SubFamily: Load Share; Mounting Technology: Surface Mount; Code_JEDEC: MS-012AA; ComponentLink1Description: Datasheet; ComponentLink1URL: http://www.ti.com/general/docs/lit/getliterature.tsp?genericPartNumber=UCC39002&fileType=pdf
footprint D8_N (SOIC, 8-Leads, Body 4.9x3.9mm, Pitch 1.27mm, IPC Medium Density)
footprint D8_L (SOIC, 8-Leads, Body 4.9x3.9mm, Pitch 1.27mm, IPC High Density)
footprint D8_M (SOIC, 8-Leads, Body 4.9x3.9mm, Pitch 1.27mm, IPC Low Density)
pins: 1 CS- (in) "Current sense amplifier inverting input.", 2 CS+ (in) "Current sense amplifier non-inverting input.", 3 VDD (power) "Power supply providing bias to the device. Bypass with a good quality, low ESL 0.1-uF to 1-uF, maximum, capacitor as close to the VDD pin and GND as possible.", 4 GND (power) "Ground. Reference ground and power ground for all device functions. Return the device to the low current sense- path of the converter.", 5 ADJ (power) "Adjust amplifier output. This is the buffered output of the error amplifier block to adjust output voltage of the power supply being controlled. This pin must always be connected to a voltage equal to or greater than VEAO + (See Datasheet)", 6 EAO (out) "Output for load share error amplifier. (Transconductance error amplifier.)", 7 LS (io) "Load share bus. Output of the load share bus driver amplifier.", 8 CSO (out) "Current sense amplifier output."

## UCC39002DGK
designator U?
Advanced Loadshare Controller with UVLO, 4.375 to 14.25 V Supply, 0 to 70 degC, 8-pin VSSOP (DGK), Green (RoHS & no Sb/Br); Manufacturer: Texas Instruments; PartNumber: UCC39002DGK; Operating Supply Current(mA): 2.5; Operating Supply(Max)(V): 14.25; Operating Supply(Min)(V): 4.375; Rating: Catalog; Share Bus: Single-Ended; Startup Current(uA): 2500; UVLO: TRUE; DatasheetVersion: SLUS495H; PackageVersion: revE, May-2006; PackageReference: DGK8; PackageDescription: 8-Pin Thin Small Outline Package 3 x 3 mm Body ,0.65 mm Pitch; Supplier 1: Digi-Key; Supplier Part Number 1: 296-13028-5-ND; Supplier 2: Newark; Supplier Part Number 2: 77C2549; Supplier 3: Mouser; Supplier Part Number 3: 595-UCC39002DGK; Eco-Plan: Green (RoHS & no Sb/Br); SubFamily: Load Share; Mounting Technology: Surface Mount; Code_JEDEC: MO-187-AA; ComponentLink1Description: Datasheet; ComponentLink1URL: http://www.ti.com/general/docs/lit/getliterature.tsp?genericPartNumber=UCC39002&fileType=pdf
footprint DGK8_N (TSOP, 8-Leads, Body 3x3mm, Pitch 0.65mm, IPC Medium Density)
footprint DGK8_L (TSOP, 8-Leads, Body 3x3mm, Pitch 0.65mm, IPC High Density)
footprint DGK8_M (TSOP, 8-Leads, Body 3x3mm, Pitch 0.65mm, IPC Low Density)
pins: 1 CS- (in) "Current sense amplifier inverting input.", 2 CS+ (in) "Current sense amplifier non-inverting input.", 3 VDD (power) "Power supply providing bias to the device. Bypass with a good quality, low ESL 0.1-uF to 1-uF, maximum, capacitor as close to the VDD pin and GND as possible.", 4 GND (power) "Ground. Reference ground and power ground for all device functions. Return the device to the low current sense- path of the converter.", 5 ADJ (power) "Adjust amplifier output. This is the buffered output of the error amplifier block to adjust output voltage of the power supply being controlled. This pin must always be connected to a voltage equal to or greater than VEAO + (See Datasheet)", 6 EAO (out) "Output for load share error amplifier. (Transconductance error amplifier.)", 7 LS (io) "Load share bus. Output of the load share bus driver amplifier.", 8 CSO (out) "Current sense amplifier output."